# Altium schematic symbol library AD9258.SchLib: 1 symbol
Pins are listed as number, name and electrical type; pins without a type are passive.

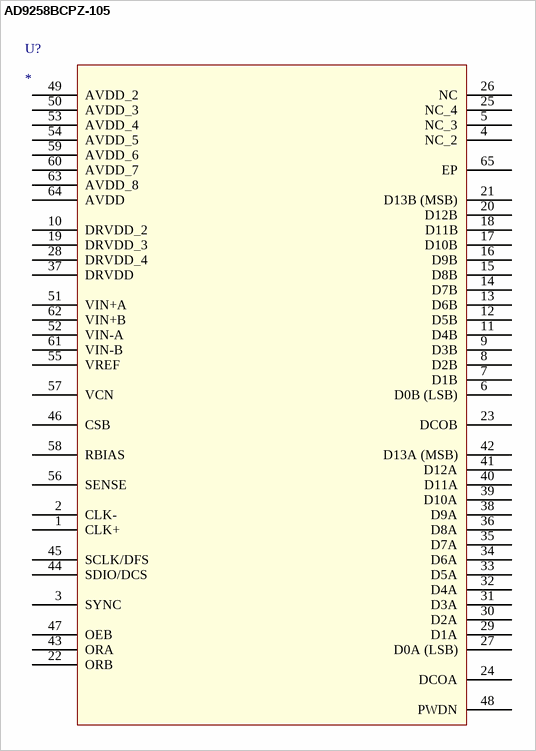
[diagram p0: symbol AD9258BCPZ-105]

## AD9258BCPZ-105
designator U?
14-Bit, 80 MSPS/105 MSPS/125 MSPS, 1.8 V Dual  Analog-to-Digital Converter (ADC); ComponentLink1URL: http://www.analog.com/static/imported-files/data_sheets/AD9258.pdf; ComponentLink1Description: Datasheet
footprint CP_64_4
pins: 1 CLK+, 2 CLK-, 3 SYNC, 4 NC_2, 5 NC_3, 6 D0B (LSB), 7 D1B, 8 D2B, 9 D3B, 10 DRVDD_2, 11 D4B, 12 D5B, 13 D6B, 14 D7B, 15 D8B, 16 D9B, 17 D10B, 18 D11B, 19 DRVDD_3, 20 D12B, 21 D13B (MSB), 22 ORB, 23 DCOB, 24 DCOA, 25 NC_4, 26 NC, 27 D0A (LSB), 28 DRVDD_4, 29 D1A, 30 D2A, 31 D3A, 32 D4A, 33 D5A, 34 D6A, 35 D7A, 36 D8A, 37 DRVDD, 38 D9A, 39 D10A, 40 D11A, 41 D12A, 42 D13A (MSB), 43 ORA, 44 SDIO/DCS, 45 SCLK/DFS, 46 CSB, 47 OEB, 48 PWDN, 49 AVDD_2, 50 AVDD_3, 51 VIN+A, 52 VIN-A, 53 AVDD_4, 54 AVDD_5, 55 VREF, 56 SENSE, 57 VCN, 58 RBIAS, 59 AVDD_6, 60 AVDD_7, 61 VIN-B, 62 VIN+B, 63 AVDD_8, 64 AVDD, 65 EP